# Altium schematic symbol library MagI3C-FISM_SMT-8.SchLib: 1 symbol
Pins are listed as number, name and electrical type; pins without a type are passive.

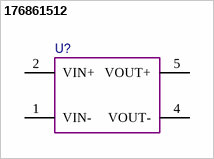
[diagram p0: symbol 176861512]

## 176861512
designator U?, comment 5 Vin, 15 Vout  (value not drawn)
MagI3C-FISM Fixed Isolated Module, SMT-8, 5 Vin, 15 Vout; Part Number: 176861512; Output Voltage: 15 V; Output Power: 1 W; Input Voltage: 5 V; ComponentLink1Description: Manufacturer; ComponentLink1URL: http://www.we-online.de; ComponentLink2Description: Datasheet; ComponentLink2URL: https://katalog.we-online.de/pm/datasheet/176861512.pdf; Published Date: August 2018; Publisher: Wurth Elektronik; Size: SMT-8; Mounting Technology: SMT; Operating Temperature: -40 to 100 degC; Packaging: Tape and Reel
pins: 1 VIN-, 2 VIN+, 4 VOUT-, 5 VOUT+